# EAGLE library part CINVESTAV_ARDUIMU_V3 (library ijrobotics)
ArduIMU V_3: Orientation solution.
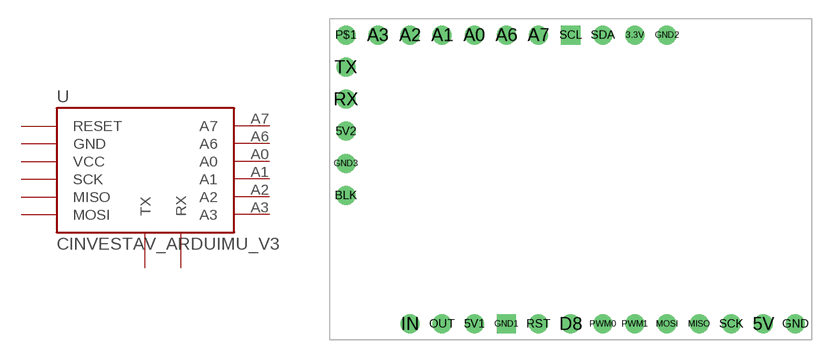
[diagram p13: symbol with the pads of CINVESTAV_SHIELD_ARDUIMU; footprint CINVESTAV_SHIELD_ARDUIMU]

Designator prefix -

## CINVESTAV_ARDUIMU_V3  [CINVESTAV_SHIELD_ARDUIMU]
5V  VCC  pwr
5V1  VCC  pwr
5V2  VCC  pwr
A0  A0
A1  A1
A2  A2
A3  A3
A6  A6
A7  A7
GND  GND  pwr
GND1  GND  pwr
GND2  GND  pwr
GND3  GND  pwr
MISO  MISO
MOSI  MOSI
RST  RESET  pas
RX  RX
SCK  SCK
TX  TX

## Footprint CINVESTAV_SHIELD_ARDUIMU (pad centres in mm)
drill 1: 3.3V 24.13,24.13; 5V 34.29,1.27; 5V1 11.43,1.27; 5V2 1.27,16.51; A0 11.43,24.13; A1 8.89,24.13; A2 6.35,24.13; A3 3.81,24.13; A6 13.97,24.13; A7 16.51,24.13; BLK 1.27,11.43; D8 19.05,1.27; GND 36.83,1.27; GND2 26.67,24.13; GND3 1.27,13.97; IN 6.35,1.27; MISO 29.21,1.27; MOSI 26.67,1.27; OUT 8.89,1.27; P$1 1.27,24.13; PWM0 21.59,1.27; PWM1 24.13,1.27; RST 16.51,1.27; RX 1.27,19.05; SCK 31.75,1.27; SDA 21.59,24.13; TX 1.27,21.59
drill 1 square: GND1 13.97,1.27; SCL 19.05,24.13